# Altium schematic symbol library Comparators_OPamps_SCH_Library_ARAF.SchLib: 1 symbol
Pins are listed as number, name and electrical type; pins without a type are passive.

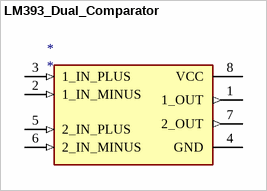
[diagram p0: symbol LM393_Dual_Comparator]

## LM393_Dual_Comparator
designator *
footprint LM393_Dual_Comparator
pins: 1 1_OUT (out), 2 1_IN_MINUS (in), 3 1_IN_PLUS (in), 4 GND (power), 5 2_IN_PLUS (in), 6 2_IN_MINUS (in), 7 2_OUT (out), 8 VCC (power)